# EAGLE library part 2134441-2 (library 2134441-2)
Conn Micro USB RCP 5 POS 0.65mm Solder RA SMD 5 Terminal 1 Port T/R Check prices <https://pricing.snapeda.com/parts/2134441-2/TE%20Connectivity/view-part?ref=eda>
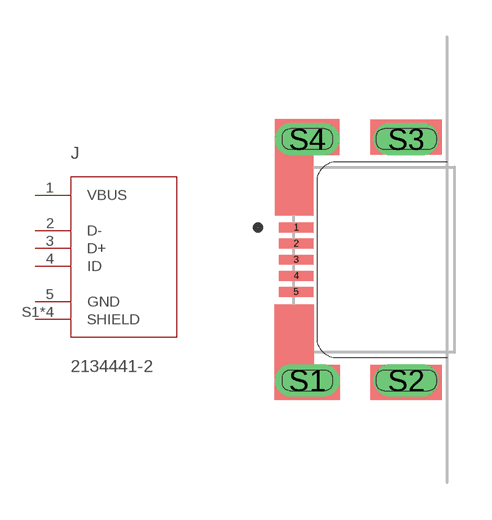
[diagram p0: symbol with the pads of TE_2134441-2; footprint TE_2134441-2]

Designator prefix J

## 2134441-2 (Availability: Good; Comment: 2134441-2; Description: Conn Micro USB RCP 5 POS 0.65mm Solder RA SMD 5 Terminal 1 Port T/R; MF: TE Connectivity; MP: 2134441-2; Package: None; Price: None; Purchase-URL: https://pricing.snapeda.com/search/part/2134441-2/?ref=eda)  [TE_2134441-2]
1  VBUS  pwr
2  D-
3  D+
4  ID
5  GND  pwr
S1  SHIELD  pwr
S2  SHIELD  pwr
S3  SHIELD  pwr
S4  SHIELD  pwr

## Footprint TE_2134441-2 (pad centres in mm)
smd 1.4 x 0.4: 1 -4.45,1.3; 2 -4.45,0.65; 3 -4.45,0; 4 -4.45,-0.65; 5 -4.45,-1.3
drill 0.8 pad 1.25 long: S1 -4,-4.875; S2 0,-4.875; S3 0,4.875; S4 -4,4.875